# Altium schematic symbol library Molex.SchLib: 2 symbols
Pins are listed as number, name and electrical type; pins without a type are passive.

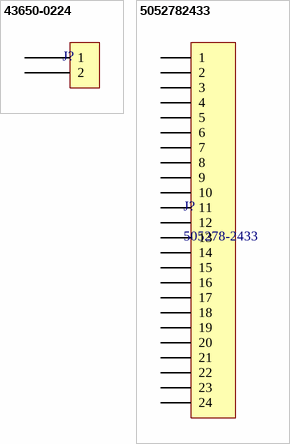
[diagram p0: symbols 43650-0224 to 5052782433]

## 43650-0224
designator J?  (value not drawn)
Headers & Wire Housings MICRO-FIT 3.0 HEADER; Manufacturer: Molex; Manufacturer Part Number: 43650-0224; Current Rating: 5 A; Mounting Angle: Vertical; Number of Positions: 2 Position; Voltage Rating: 600 V; Pitch: 3 mm; Qualification: Commercial; Supplier 1: Mouser; Supplier Part Number 1: 538-43650-0224; RoHS: RoHS Compliant; Category: Headers & Wire Housings; Stock 1: 1526; Pricing 1: 1=1.88, 10=1.69, 25=1.61, 100=1.46, 250=1.35, 500=1.15, 1000=1.07, 1800=1.02, 3600=0.999 (EUR); Accessory Type: -; Contact Plating: Tin; Contact Type: -; Housing Material: Liquid Crystal Polymer (LCP); Number of Rows: 1 Row; Packaging: Reel; Product: Headers; Series: 43650; Termination Style: SMD; Type: Power; Brand: Molex; Contact Material: Brass; Mounting Style: SMD; Row Spacing: -; Contact Gender: Pin (Male); Standard Pack Qty: 1800; Tradename: Micro-Fit 3.0; RoHS - Mouser: Y; Minimum Order Quantity: 1; Reeling: True; ComponentLink1URL: http://www.mouser.com/ds/2/276/0436500224_PCB_HEADERS-168469.pdf; ComponentLink1Description: http://www.mouser.com/ds/2/276/0436500224_PCB_HEADERS-168469.pdf
footprint 43650-0224
pins: 1, 2

## 5052782433
designator J?, comment 505278-2433
0.5 FFC ZIF BTM CONT EMBT PKG 24; Manufacturer: Molex, LLC; Manufacturer Part Number: 5052782433; Flat Flex Type: FFC, FPC; Connector/Contact Type: Contacts, Bottom; Number of Positions: 24; Pitch: 0.020" (0.50mm); FFC, FCB Thickness: 0.30mm; Locking Feature: Flip Lock; Cable End Type: Tabbed, Tapered; Actuator Material: Polyamide (PA), Nylon, Glass Filled; Voltage Rating: 50V; Material Flammability Rating: UL94 V-0; Current Rating: 0.5A; Supplier 1: Digi-Key; Supplier Part Number 1: 5052782433-ND; RoHS: RoHS Compliant; Category: Connectors, Interconnects; Stock 1: 0; Pricing 1: 3000=0.4308 (USD); Packaging: Tape & Reel (TR); Part Status: Active; Mounting Type: Surface Mount, Right Angle; Termination: Solder; Height Above Board: 0.075" (1.90mm); Contact Material: Phosphor Bronze; Contact Finish: Tin; Housing Material: Liquid Crystal Polymer (LCP), Glass Filled; Features: Solder Retention; Operating Temperature: -40°C ~ 85°C; ComponentLink1URL: http://www.molex.com/pdm_docs/sd/5052782433_sd.pdf; ComponentLink1Description: http://www.molex.com/pdm_docs/sd/5052782433_sd.pdf
footprint 505278-2433
pins: 1, 2, 3, 4, 5, 6, 7, 8, 9, 10, 11, 12, 13, 14, 15, 16, 17, 18, 19, 20, 21, 22, 23, 24